# Altium footprint library SamacSys.PcbLib: 11 footprints
Each footprint in its own frame and in the unit in brackets; x right, y up, seen from the top. Pads: shape width x height; smd on the part's side, far side on the other; paste and mask are expansions set on the pad; w line width, h text height; cw(c..) or ccw(c..) is an arc to the next point about the centre after c.
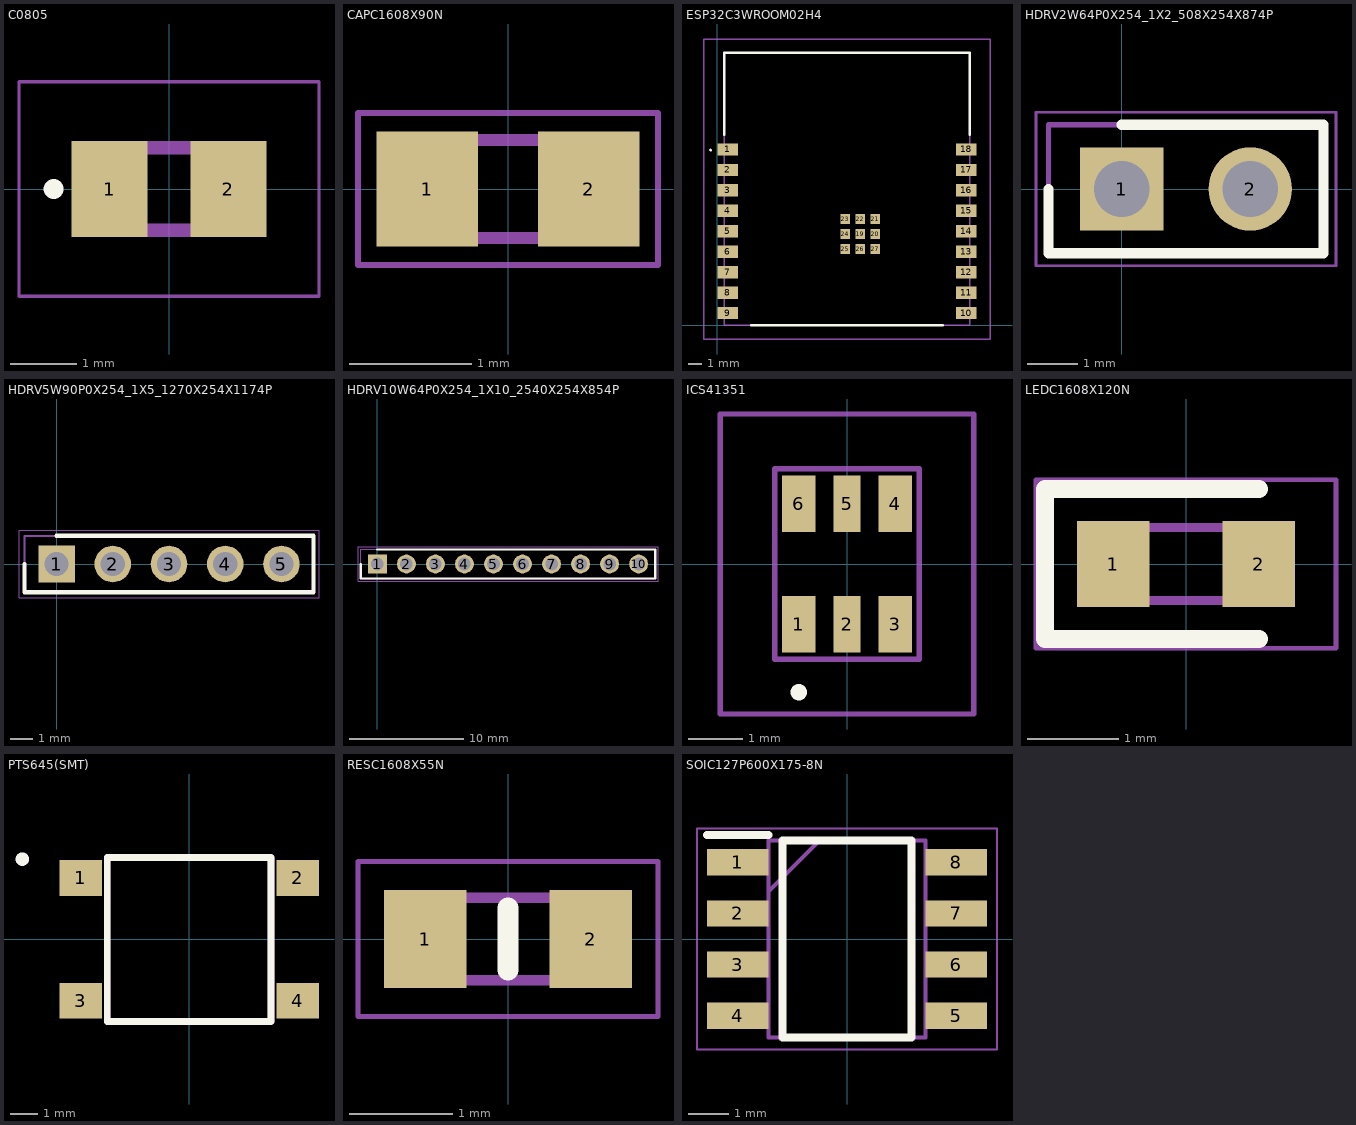
[diagram p0: the footprints below, top view; thin cyan lines are the x and y axes]

## C0805 [mm]
pads (2):
  rect 1.15x1.45 smd: 1(-0.9,0) 2(0.9,0)
Top Overlay:
  circle w0.2: c-1.75,0 r0.05
Mechanical 13:
  lines w0.2: -1,-0.625 1,-0.625 1,0.625 -1,0.625 -1,-0.625
Mechanical 15:
  lines w0.05: -2.275,-1.625 2.275,-1.625 2.275,1.625 -2.275,1.625 -2.275,-1.625
3D body "C0805C106K4PACTU.stp": height 0, standoff -1.45, extent 0,0 2.2,1.4

## CAPC1608X90N [mm]
pads (2):
  rect 0.83x0.94 smd: 1(-0.66,0) 2(0.66,0)
Mechanical 13:
  lines w0.1: -0.8,-0.4 -0.8,0.4 0.8,0.4 0.8,-0.4 -0.8,-0.4
Mechanical 15:
  lines w0.05: -1.225,-0.62 -1.225,0.62 1.225,0.62 1.225,-0.62 -1.225,-0.62
3D body "CC0603KRX7R7BB104.stp": height 0, standoff -0.9, extent 0,0 1.7,0.9

## ESP32C3WROOM02H4 [mm]
pads (27):
  rect 1.5x0.9 smd: 1(0.75,12.9) 2(0.75,11.4) 3(0.75,9.9) 4(0.75,8.4) 5(0.75,6.9) 6(0.75,5.4) 7(0.75,3.9) 8(0.75,2.4) 9(0.75,0.9) 10(18.25,0.9) 11(18.25,2.4) 12(18.25,3.9) 13(18.25,5.4) 14(18.25,6.9) 15(18.25,8.4) 16(18.25,9.9) 17(18.25,11.4) 18(18.25,12.9)
  rect 0.7x0.7 smd: 19(10.46,6.7) 20(11.56,6.7) 21(11.56,7.8) 22(10.46,7.8) 23(9.36,7.8) 24(9.36,6.7) 25(9.36,5.6) 26(10.46,5.6) 27(11.56,5.6)
Top Overlay:
  lines w0.1: -0.5,12.8 ccw(c-0.5,12.85) -0.5,12.9 ccw(c-0.5,12.85) -0.5,12.8
  lines w0.2: 0.5,14 0.5,20 18.5,20 18.5,14 ; 2.5,0 16.5,0
Mechanical 13:
  lines w0.1: 0.5,0 18.5,0 18.5,20 0.5,20 0.5,0
Mechanical 15:
  lines w0.1: -1,-1 20,-1 20,21 -1,21 -1,-1
3D body "ESP32-C3-WROOM-02-H4.stp": height 3.2, standoff 0, extent 0.5,0 18.5,20

## HDRV2W64P0X254_1X2_508X254X874P [mm]
pads (2):
  rect 1.65x1.65 hole 1.1: 1(0,0)
  round 1.65 hole 1.1: 2(2.54,0)
Top Overlay:
  lines w0.2: -1.445,0 -1.445,-1.27 3.985,-1.27 3.985,1.27 0,1.27
Mechanical 13:
  lines w0.1: -1.445,-1.27 3.985,-1.27 3.985,1.27 -1.445,1.27 -1.445,-1.27
Mechanical 15:
  lines w0.05: -1.695,-1.52 4.235,-1.52 4.235,1.52 -1.695,1.52 -1.695,-1.52
3D body "2211S-02G.stp": height 8.74, standoff -3, extent -1.27,-1.27 3.81,1.27

## HDRV5W90P0X254_1X5_1270X254X1174P [mm]
pads (5):
  rect 1.65x1.65 hole 1.1: 1(0,0)
  round 1.65 hole 1.1: 2(2.54,0) 3(5.08,0) 4(7.62,0) 5(10.16,0)
Top Overlay:
  lines w0.2: -1.445,0 -1.445,-1.27 11.605,-1.27 11.605,1.27 0,1.27
Mechanical 13:
  lines w0.1: -1.445,-1.27 11.605,-1.27 11.605,1.27 -1.445,1.27 -1.445,-1.27
Mechanical 15:
  lines w0.05: -1.695,-1.52 11.855,-1.52 11.855,1.52 -1.695,1.52 -1.695,-1.52
3D body "2211S-05G.stp": height 11.74, standoff -3, extent -1.27,-1.27 11.43,1.27

## HDRV10W64P0X254_1X10_2540X254X854P [mm]
pads (10):
  rect 1.65x1.65 hole 1.1: 1(0,0)
  round 1.65 hole 1.1: 2(2.54,0) 3(5.08,0) 4(7.62,0) 5(10.16,0) 6(12.7,0) 7(15.24,0) 8(17.78,0) 9(20.32,0) 10(22.86,0)
Top Overlay:
  lines w0.2: -1.445,0 -1.445,-1.27 24.305,-1.27 24.305,1.27 0,1.27
Mechanical 13:
  lines w0.1: -1.445,-1.27 -1.445,1.27 24.305,1.27 24.305,-1.27 -1.445,-1.27
Mechanical 15:
  lines w0.05: -1.695,-1.52 -1.695,1.52 24.555,1.52 24.555,-1.52 -1.695,-1.52

## ICS41351 [mm]
pads (6):
  rect 0.622x1.032 smd: 1(-0.884,-1.105) 3(0.884,-1.105) 4(0.884,1.105) 6(-0.884,1.105)
  rect 0.5x1.032 smd: 2(0,-1.105) 5(0,1.105)
Top Overlay:
  lines w0.2: -0.884,-2.4 ccw(c-0.884,-2.35) -0.884,-2.3 ; -0.884,-2.4 cw(c-0.884,-2.35) -0.884,-2.3 ; -0.884,-2.4 ccw(c-0.884,-2.35) -0.884,-2.3
Mechanical 13:
  lines w0.1: -1.325,-1.75 -1.325,1.75 1.325,1.75 1.325,-1.75 -1.325,-1.75
Mechanical 15:
  lines w0.1: -2.325,-2.75 -2.325,2.75 2.325,2.75 2.325,-2.75 -2.325,-2.75
3D body "ICS-41351.stp": height 0.91, standoff -0.07, extent -1.325,-1.75 1.325,1.75

## LEDC1608X120N [mm]
pads (2):
  rect 0.8x0.95 smd: 1(-0.8,0) 2(0.8,0)
Top Overlay:
  lines w0.2: 0.8,-0.825 -1.55,-0.825 -1.55,0.825 0.8,0.825
Mechanical 13:
  lines w0.1: -0.8,0.133 -0.533,0.4 ; -0.8,-0.4 -0.8,0.4 0.8,0.4 0.8,-0.4 -0.8,-0.4
Mechanical 15:
  lines w0.05: -1.65,-0.925 -1.65,0.925 1.65,0.925 1.65,-0.925 -1.65,-0.925

## PTS645(SMT) [mm]
pads (4):
  rect 1.55x1.3 smd: 1(-3.975,2.25) 2(3.975,2.25) 3(-3.975,-2.25) 4(3.975,-2.25)
Top Overlay:
  circle w0.254: c-6.108,2.939 r0.121
  lines w0.254: -3,-3 3,-3 3,3 -3,3 -3,-3
Mechanical 13:
  lines w0.254: -3,-3 3,-3 3,3 -3,3 -3,-3
3D body "PTS645SM43SMTR92LFS.stp": height 4.3, standoff 0, extent -4.5,-3 4.5,3

## RESC1608X55N [mm]
pads (2):
  rect 0.8x0.95 smd: 1(-0.8,0) 2(0.8,0)
Top Overlay:
  lines w0.2: 0,-0.3 0,0.3
Mechanical 13:
  lines w0.1: -0.8,-0.4 -0.8,0.4 0.8,0.4 0.8,-0.4 -0.8,-0.4
Mechanical 15:
  lines w0.05: -1.45,-0.75 -1.45,0.75 1.45,0.75 1.45,-0.75 -1.45,-0.75
3D body "RC0603FR-0710KL.stp": height 0.55, standoff 0, extent -0.8,-0.4 0.8,0.4

## SOIC127P600X175-8N [mm]
pads (8):
  rect 1.525x0.65 smd: 1(-2.712,1.905) 2(-2.712,0.635) 3(-2.712,-0.635) 4(-2.712,-1.905) 5(2.712,-1.905) 6(2.712,-0.635) 7(2.712,0.635) 8(2.712,1.905)
Top Overlay:
  lines w0.2: -3.475,2.58 -1.95,2.58 ; -1.6,-2.45 1.6,-2.45 1.6,2.45 -1.6,2.45 -1.6,-2.45
Mechanical 13:
  lines w0.1: -1.95,1.18 -0.68,2.45 ; -1.95,-2.45 1.95,-2.45 1.95,2.45 -1.95,2.45 -1.95,-2.45
Mechanical 15:
  lines w0.05: -3.725,-2.75 3.725,-2.75 3.725,2.75 -3.725,2.75 -3.725,-2.75
3D body "NE555DR.stp": height 1.75, standoff 0, extent -3,-2.45 3,2.45